# Altium footprint library seed_sentinel.PcbLib: 32 footprints (part 2 of 2)
Each footprint in its own frame and in the unit in brackets; x right, y up, seen from the top. Pads: shape width x height; smd on the part's side, far side on the other; paste and mask are expansions set on the pad; w line width, h text height; cw(c..) or ccw(c..) is an arc to the next point about the centre after c.
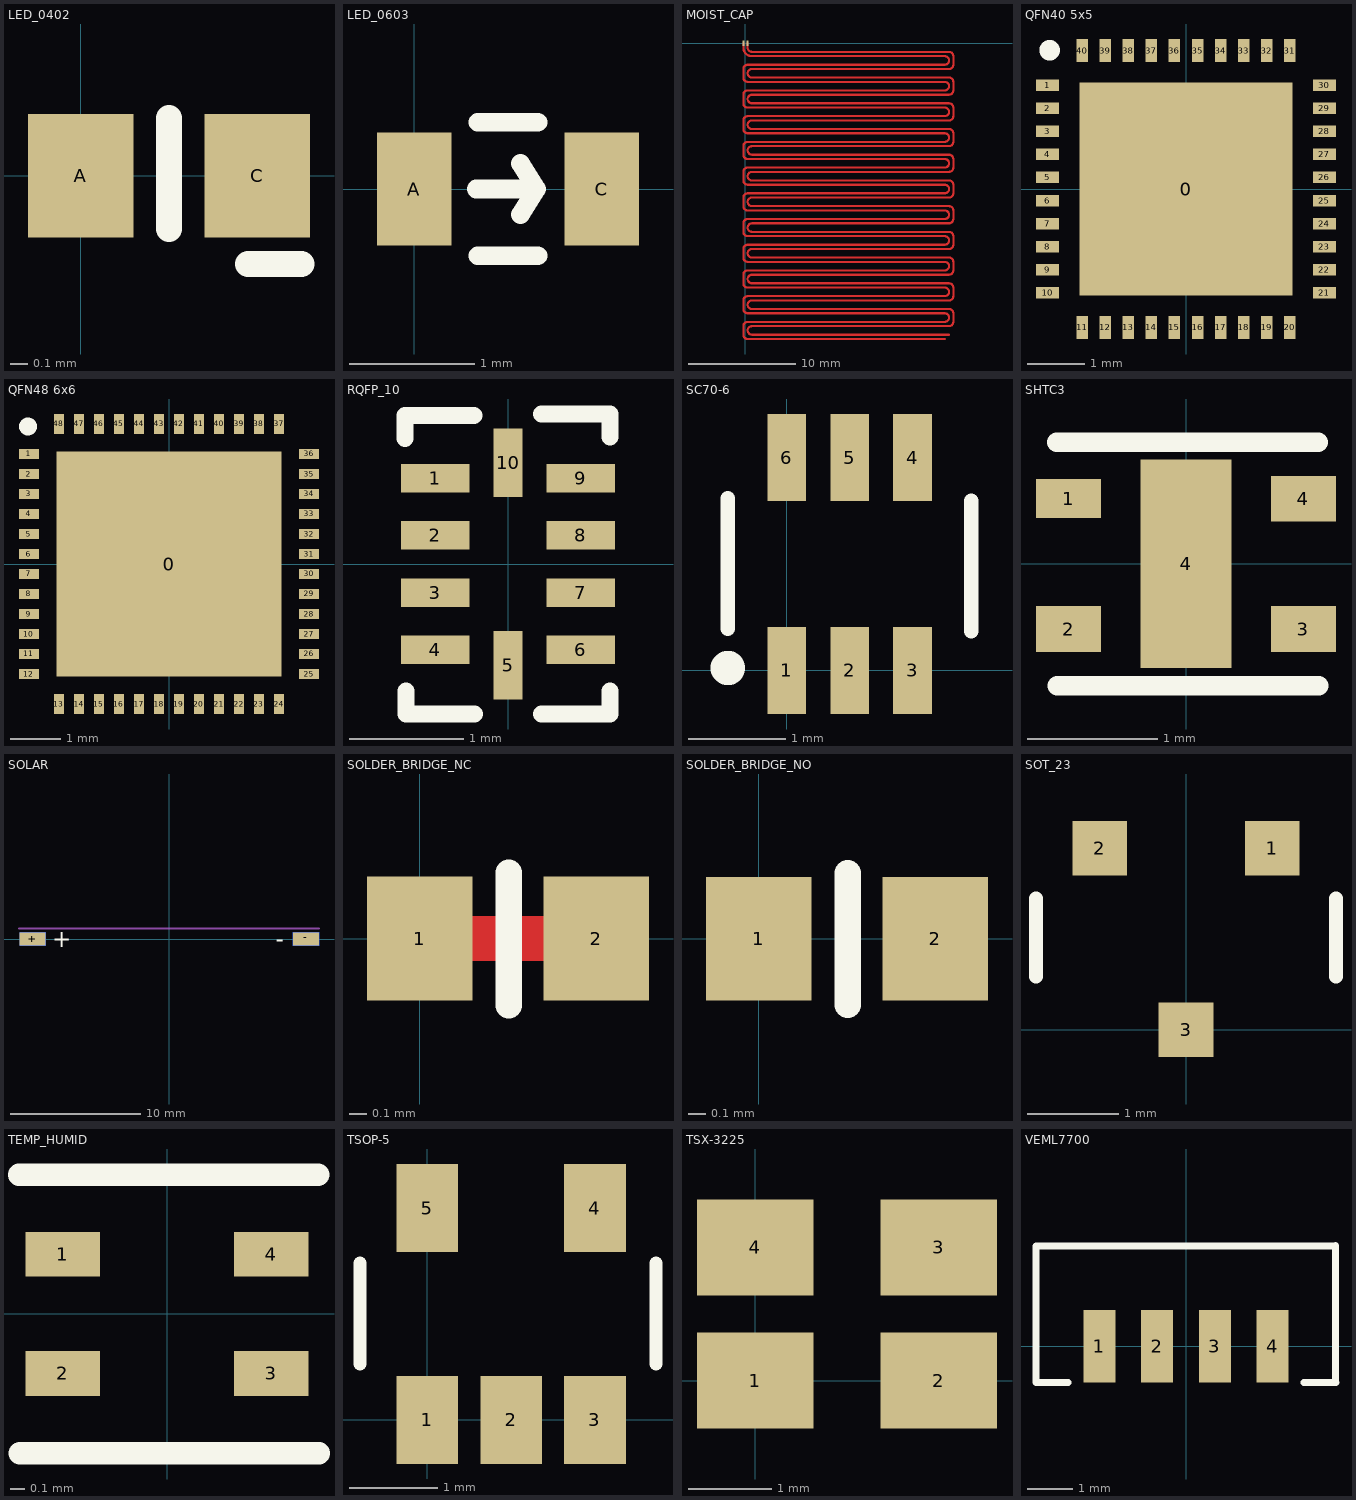
[diagram p1: the footprints below, top view; thin cyan lines are the x and y axes]

## LED_0402 [mm]
pads (2):
  rect 0.6x0.7 smd: A(0,0) C(1,0)
Top Overlay:
  lines w0.15: 0.5,-0.3 0.5,0.325 ; 0.95,-0.5 1.25,-0.5

## LED_0603 [mm]
pads (2):
  rect 0.6x0.9 smd: A(0,0) C(1.5,0)
Top Overlay:
  lines w0.15: 0.495,0 0.978,0 ; 0.508,-0.533 0.991,-0.533 ; 0.508,0.533 0.991,0.533 ; 0.851,-0.203 0.978,0 ; 0.851,0.203 0.978,0

## MOIST_CAP [mm]
pads (2):
  rect 0.2x0.5 smd mask+0: 1(-0.2,0) 2(0.2,0)
Top Layer:
  lines w0.2: -0.2,0 -0.2,-0.4 ccw(c0.6,-0.4) 0.6,-1.2 18.6,-1.2 cw(c18.6,-1.6) 19,-1.6 cw(c18.6,-1.6) 18.6,-2 13.4,-2 0.2,-2 ccw(c0.2,-2.4) -0.2,-2.4 -0.2,-3.2 ccw(c0.2,-3.2) 0.2,-3.6 18.6,-3.6 cw(c18.6,-4) 19,-4 cw(c18.6,-4) 18.6,-4.4 13.4,-4.4 0.2,-4.4 ccw(c0.2,-4.8) -0.2,-4.8 -0.2,-5.6 ccw(c0.2,-5.6) 0.2,-6 18.6,-6 cw(c18.6,-6.4) 19,-6.4 cw(c18.6,-6.4) 18.6,-6.8 13.4,-6.8 0.2,-6.8 ccw(c0.2,-7.2) -0.2,-7.2 -0.2,-8 ccw(c0.2,-8) 0.2,-8.4 18.6,-8.4 cw(c18.6,-8.8) 19,-8.8 cw(c18.6,-8.8) 18.6,-9.2 13.4,-9.2 0.2,-9.2 ccw(c0.2,-9.6) -0.2,-9.6 -0.2,-10.4 ccw(c0.2,-10.4) 0.2,-10.8 18.6,-10.8 cw(c18.6,-11.2) 19,-11.2 cw(c18.6,-11.2) 18.6,-11.6 13.4,-11.6 0.2,-11.6 ccw(c0.2,-12) -0.2,-12 -0.2,-12.8 ccw(c0.2,-12.8) 0.2,-13.2 18.6,-13.2 cw(c18.6,-13.6) 19,-13.6 cw(c18.6,-13.6) 18.6,-14 13.4,-14 0.2,-14 ccw(c0.2,-14.4) -0.2,-14.4 -0.2,-15.2 ccw(c0.2,-15.2) 0.2,-15.6 18.6,-15.6 cw(c18.6,-16) 19,-16 cw(c18.6,-16) 18.6,-16.4 13.4,-16.4 0.2,-16.4 ccw(c0.2,-16.8) -0.2,-16.8 -0.2,-17.6 ccw(c0.2,-17.6) 0.2,-18 18.6,-18 cw(c18.6,-18.4) 19,-18.4 cw(c18.6,-18.4) 18.6,-18.8 13.4,-18.8 0.2,-18.8 ccw(c0.2,-19.2) -0.2,-19.2 -0.2,-20 ccw(c0.2,-20) 0.2,-20.4 18.6,-20.4 cw(c18.6,-20.8) 19,-20.8 cw(c18.6,-20.8) 18.6,-21.2 13.4,-21.2 0.2,-21.2 ccw(c0.2,-21.6) -0.2,-21.6 -0.2,-22.4 ccw(c0.2,-22.4) 0.2,-22.8 18.6,-22.8 cw(c18.6,-23.2) 19,-23.2 cw(c18.6,-23.2) 18.6,-23.6 13.4,-23.6 0.2,-23.6 ccw(c0.2,-24) -0.2,-24 -0.2,-24.8 ccw(c0.2,-24.8) 0.2,-25.2 18.6,-25.2 cw(c18.6,-25.6) 19,-25.6 cw(c18.6,-25.6) 18.6,-26 13.4,-26 0.2,-26 ccw(c0.2,-26.4) -0.2,-26.4 -0.2,-27.2 ccw(c0.2,-27.2) 0.2,-27.6 18.6,-27.6 ; 0.2,0 0.2,-0.4 ccw(c0.6,-0.4) 0.6,-0.8 19,-0.8 cw(c19,-1.2) 19.4,-1.2 19.4,-2 cw(c19,-2) 19,-2.4 14.2,-2.4 4.2,-2.4 0.6,-2.4 ccw(c0.6,-2.8) 0.2,-2.8 ccw(c0.6,-2.8) 0.6,-3.2 19,-3.2 cw(c19,-3.6) 19.4,-3.6 19.4,-4.4 cw(c19,-4.4) 19,-4.8 14.2,-4.8 4.2,-4.8 0.6,-4.8 ccw(c0.6,-5.2) 0.2,-5.2 ccw(c0.6,-5.2) 0.6,-5.6 19,-5.6 cw(c19,-6) 19.4,-6 19.4,-6.8 cw(c19,-6.8) 19,-7.2 14.2,-7.2 4.2,-7.2 0.6,-7.2 ccw(c0.6,-7.6) 0.2,-7.6 ccw(c0.6,-7.6) 0.6,-8 19,-8 cw(c19,-8.4) 19.4,-8.4 19.4,-9.2 cw(c19,-9.2) 19,-9.6 14.2,-9.6 4.2,-9.6 0.6,-9.6 ccw(c0.6,-10) 0.2,-10 ccw(c0.6,-10) 0.6,-10.4 19,-10.4 cw(c19,-10.8) 19.4,-10.8 19.4,-11.6 cw(c19,-11.6) 19,-12 14.2,-12 4.2,-12 0.6,-12 ccw(c0.6,-12.4) 0.2,-12.4 ccw(c0.6,-12.4) 0.6,-12.8 19,-12.8 cw(c19,-13.2) 19.4,-13.2 19.4,-14 cw(c19,-14) 19,-14.4 14.2,-14.4 4.2,-14.4 0.6,-14.4 ccw(c0.6,-14.8) 0.2,-14.8 ccw(c0.6,-14.8) 0.6,-15.2 19,-15.2 cw(c19,-15.6) 19.4,-15.6 19.4,-16.4 cw(c19,-16.4) 19,-16.8 14.2,-16.8 4.2,-16.8 0.6,-16.8 ccw(c0.6,-17.2) 0.2,-17.2 ccw(c0.6,-17.2) 0.6,-17.6 19,-17.6 cw(c19,-18) 19.4,-18 19.4,-18.8 cw(c19,-18.8) 19,-19.2 14.2,-19.2 4.2,-19.2 0.6,-19.2 ccw(c0.6,-19.6) 0.2,-19.6 ccw(c0.6,-19.6) 0.6,-20 19,-20 cw(c19,-20.4) 19.4,-20.4 19.4,-21.2 cw(c19,-21.2) 19,-21.6 14.2,-21.6 4.2,-21.6 0.6,-21.6 ccw(c0.6,-22) 0.2,-22 ccw(c0.6,-22) 0.6,-22.4 19,-22.4 cw(c19,-22.8) 19.4,-22.8 19.4,-23.6 cw(c19,-23.6) 19,-24 14.2,-24 4.2,-24 0.6,-24 ccw(c0.6,-24.4) 0.2,-24.4 ccw(c0.6,-24.4) 0.6,-24.8 19,-24.8 cw(c19,-25.2) 19.4,-25.2 19.4,-26 cw(c19,-26) 19,-26.4 14.2,-26.4 4.2,-26.4 0.6,-26.4 ccw(c0.6,-26.8) 0.2,-26.8 ccw(c0.6,-26.8) 0.6,-27.2 19,-27.2

## QFN40 5x5 [mm]
pads (41):
  rect 3.7x3.7 smd: 0(0,0)
  rect 0.4x0.2 smd: 1(-2.4,1.8) 2(-2.4,1.4) 3(-2.4,1) 4(-2.4,0.6) 5(-2.4,0.2) 6(-2.4,-0.2) 7(-2.4,-0.6) 8(-2.4,-1) 9(-2.4,-1.4) 10(-2.4,-1.8) 21(2.4,-1.8) 22(2.4,-1.4) 23(2.4,-1) 24(2.4,-0.6) 25(2.4,-0.2) 26(2.4,0.2) 27(2.4,0.6) 28(2.4,1) 29(2.4,1.4) 30(2.4,1.8)
  rect 0.2x0.4 smd: 11(-1.8,-2.4) 12(-1.4,-2.4) 13(-1,-2.4) 14(-0.6,-2.4) 15(-0.2,-2.4) 16(0.2,-2.4) 17(0.6,-2.4) 18(1,-2.4) 19(1.4,-2.4) 20(1.8,-2.4) 31(1.8,2.4) 32(1.4,2.4) 33(1,2.4) 34(0.6,2.4) 35(0.2,2.4) 36(-0.2,2.4) 37(-0.6,2.4) 38(-1,2.4) 39(-1.4,2.4) 40(-1.8,2.4)
Top Overlay:
  circle w0.254: c-2.364,2.406 r0.051

## QFN48 6x6 [mm]
pads (49):
  rect 4.5x4.5 smd: 0(0,0)
  rect 0.4x0.2 smd: 1(-2.8,2.2) 2(-2.8,1.8) 3(-2.8,1.4) 4(-2.8,1) 5(-2.8,0.6) 6(-2.8,0.2) 7(-2.8,-0.2) 8(-2.8,-0.6) 9(-2.8,-1) 10(-2.8,-1.4) 11(-2.8,-1.8) 12(-2.8,-2.2) 25(2.8,-2.2) 26(2.8,-1.8) 27(2.8,-1.4) 28(2.8,-1) 29(2.8,-0.6) 30(2.8,-0.2) 31(2.8,0.2) 32(2.8,0.6) 33(2.8,1) 34(2.8,1.4) 35(2.8,1.8) 36(2.8,2.2)
  rect 0.2x0.4 smd: 13(-2.2,-2.8) 14(-1.8,-2.8) 15(-1.4,-2.8) 16(-1,-2.8) 17(-0.6,-2.8) 18(-0.2,-2.8) 19(0.2,-2.8) 20(0.6,-2.8) 21(1,-2.8) 22(1.4,-2.8) 23(1.8,-2.8) 24(2.2,-2.8) 37(2.2,2.8) 38(1.8,2.8) 39(1.4,2.8) 40(1,2.8) 41(0.6,2.8) 42(0.2,2.8) 43(-0.2,2.8) 44(-0.6,2.8) 45(-1,2.8) 46(-1.4,2.8) 47(-1.8,2.8) 48(-2.2,2.8)
Top Overlay:
  circle w0.254: c-2.819,2.75 r0.051

## RQFP_10 [mm]
pads (10):
  rect 0.6x0.25 smd: 1(-0.635,0.75) 2(-0.635,0.25) 3(-0.635,-0.25) 4(-0.635,-0.75) 6(0.635,-0.75) 7(0.635,-0.25) 8(0.635,0.25) 9(0.635,0.75)
  rect 0.25x0.6 smd: 5(0,-0.885) 10(0,0.885)
Top Overlay:
  lines w0.15: -0.9,1.1 -0.9,1.3 -0.3,1.3 ; -0.892,-1.112 -0.892,-1.312 -0.292,-1.312 ; 0.292,-1.312 0.892,-1.312 0.892,-1.112 ; 0.292,1.312 0.892,1.312 0.892,1.112

## SC70-6 [mm]
pads (6):
  rect 0.4x0.9 smd: 1(0,0) 2(0.65,0) 3(1.3,0) 4(1.3,2.2) 5(0.65,2.2) 6(0,2.2)
Top Overlay:
  circle w0.254: c-0.61,0.025 r0.051
  lines w0.15: -0.61,0.432 -0.61,1.778 ; 1.905,0.406 1.905,1.753

## SHTC3 [mm]
pads (5):
  rect 0.5x0.3 smd: 1(-0.9,0.5)
  rect 0.5x0.35 smd: 2(-0.9,-0.5) 3(0.9,-0.5) 4(0.9,0.5)
  rect 0.7x1.6 smd: 4(0,0)
Top Overlay:
  lines w0.15: -0.992,0.933 1.015,0.933 ; -0.988,-0.936 1.019,-0.936

## SOLAR [mm]
pads (4):
  rect 2x1 smd: +(-10.5,0) -(10.5,0)
  rect 2x1 smd far side: +(-10.5,0) -(10.5,0)
Top Overlay:
  text "-" at 8.194,-0.65 h1.3
  text "+" at -8.976,-0.623 h1.3
Bottom Overlay:
  text "-" at 8.194,-0.624 h1.3
  text "+" at -8.976,-0.598 h1.3
Mechanical 1:
  lines w0.15: -11.541,0.813 11.496,0.813

## SOLDER_BRIDGE_NC [mm]
pads (2):
  rect 0.6x0.7 smd: 1(0,0) 2(1,0)
Top Layer:
  lines w0.254: 0,0 1,0
Top Overlay:
  lines w0.15: 0.503,-0.377 0.503,0.372

## SOLDER_BRIDGE_NO [mm]
pads (2):
  rect 0.6x0.7 smd: 1(0,0) 2(1,0)
Top Overlay:
  lines w0.15: 0.503,-0.373 0.503,0.372

## SOT_23 [mm]
pads (3):
  rect 0.6x0.6 smd: 1(0.95,2) 2(-0.95,2) 3(0,0)
Top Overlay:
  lines w0.15: -1.65,0.584 -1.65,1.448 ; 1.65,0.584 1.65,1.448

## TEMP_HUMID [mm]
pads (4):
  rect 0.5x0.3 smd: 1(-0.7,0.4) 2(-0.7,-0.4) 3(0.7,-0.4) 4(0.7,0.4)
Top Overlay:
  lines w0.15: -0.992,0.933 1.015,0.933 ; -0.988,-0.936 1.019,-0.936

## TSOP-5 [mm]
pads (5):
  rect 0.7x1 smd: 1(0,0) 2(0.95,0) 3(1.9,0) 4(1.9,2.4) 5(0,2.4)
Top Overlay:
  lines w0.15: -0.762,0.635 -0.762,1.778 ; 2.591,0.635 2.591,1.778

## TSX-3225 [mm]
pads (4):
  rect 1.4x1.15 smd: 1(0,0) 2(2.2,0) 3(2.2,1.6) 4(0,1.6)

## VEML7700 [mm]
pads (4):
  rect 0.7x1.6 smd: 1(-1.905,0) 2(-0.635,0) 3(0.635,0) 4(1.905,0)
Top Overlay:
  lines w0.15: -2.592,-0.8 -3.3,-0.8 -3.3,2.2 3.276,2.2 ; 2.592,-0.8 3.3,-0.8 ; 3.291,-0.786 3.291,2.214